# Altium schematic symbol library Altium_Box_Header.SchLib: 201 symbols (part 5 of 5)
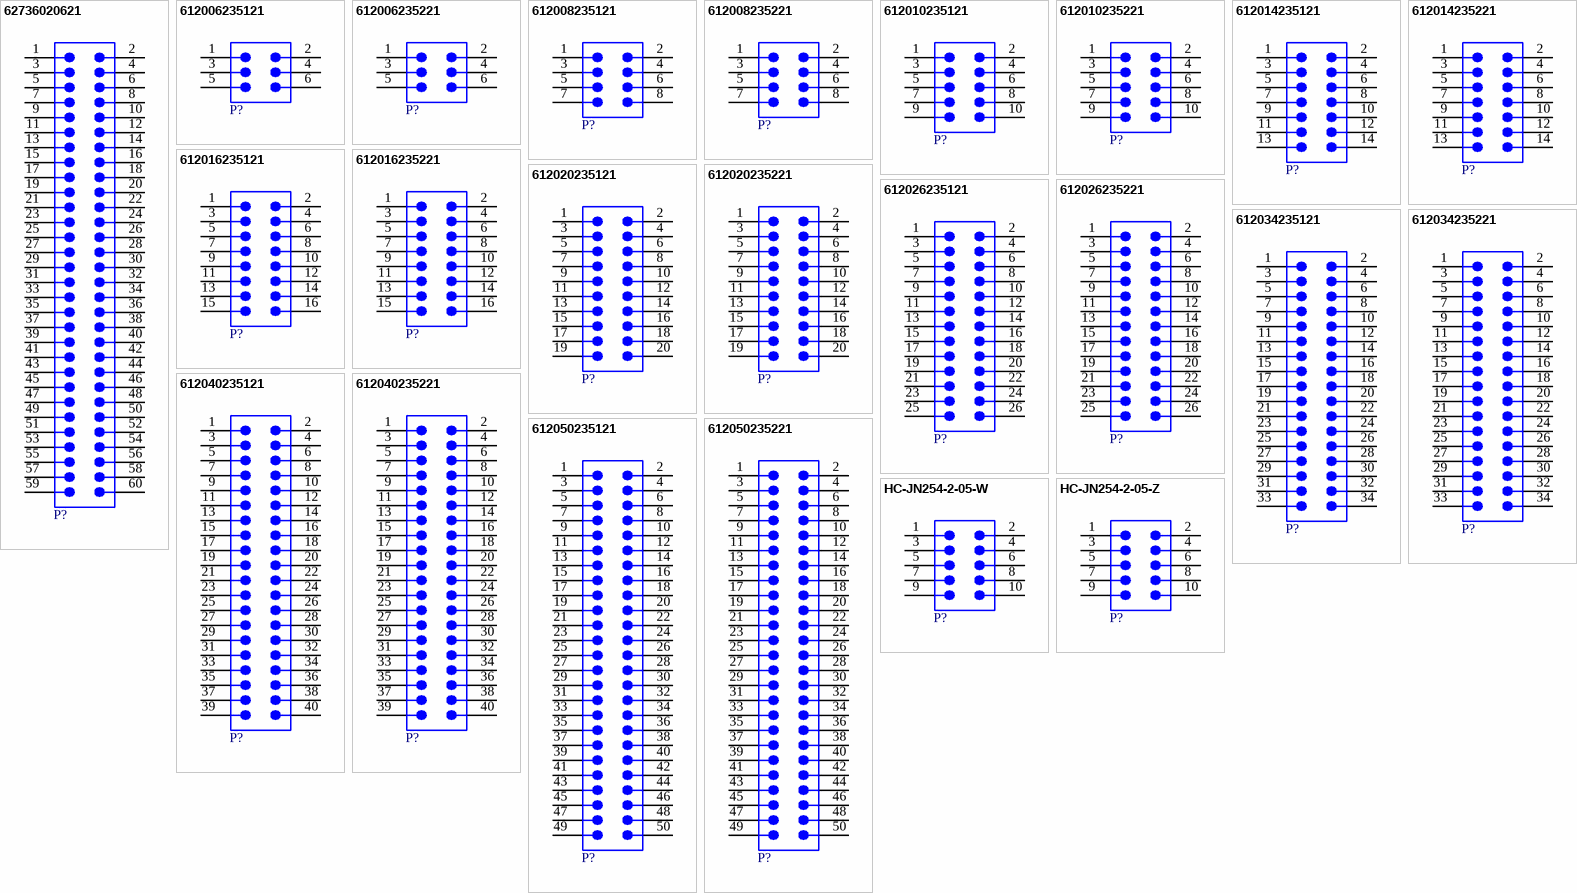
[diagram p9: symbols 62736020621 to HC-JN254-2-05-Z]

## 612014235221
designator P?  (value not drawn)
WR-BHD Male Box Header, THT Right Angle, pitch 2.54mm, 2 row, 14 pin; Manufacturer: Wurth Elektronik; Contact Resistance: 20mOhm; Insulation Resistance: 1000MOhm; Rated Current: 3A; Working Voltage: 250V; Withstanding Voltage: 500V; Manufacturer Part Number: 612014235221; Match Code: WR-BHD; ComponentLink1Description: Datasheet; ComponentLink1URL: https://www.we-online.com/redexpert/spec/612014235221?ad; Mount: Through Hole; Operating Temperature Max: 125°C; Operating Temperature Min: -40°C; Packaging: Tray; Length: 25.38mm; Width: 13.19mm; Height: 9.05mm; Gender: Male; Number of Pins: 14; Number of Rows: 2; Orientation: Right Angle; Pitch: 2.54mm; Supplier 1 URL: N/A; Supplier 2 URL: N/A; Supplier 3 URL: N/A; Supplier 1: Mouser; Supplier 1 Part Number: N/A; Supplier 2: Digi-Key; Supplier 2 Part Number: N/A; Supplier 3: thegioiic; Supplier 3 Part Number: N/A; LCSC Part #: N/A
footprint 612014235221
pins: 1, 2, 3, 4, 5, 6, 7, 8, 9, 10, 11, 12, 13, 14

## 612016235121
designator P?  (value not drawn)
WR-BHD Male Box Header, THT Straight, pitch 2.54mm, 2 row, 16 pin; Manufacturer: Wurth Elektronik; Contact Resistance: 20mOhm; Insulation Resistance: 1000MOhm; Rated Current: 3A; Working Voltage: 250V; Withstanding Voltage: 500V; Manufacturer Part Number: 612016235121; Match Code: WR-BHD; ComponentLink1Description: Datasheet; ComponentLink1URL: https://www.we-online.com/redexpert/spec/612016235121?ad; Mount: Through Hole; Operating Temperature Max: 125°C; Operating Temperature Min: -40°C; Packaging: Tray; Length: 27.92mm; Width: 9.05mm; Height: 9.05mm; Gender: Male; Number of Pins: 16; Number of Rows: 2; Orientation: Straight; Pitch: 2.54mm; Supplier 1 URL: N/A; Supplier 2 URL: N/A; Supplier 3 URL: N/A; Supplier 1: Mouser; Supplier 1 Part Number: N/A; Supplier 2: Digi-Key; Supplier 2 Part Number: N/A; Supplier 3: thegioiic; Supplier 3 Part Number: N/A; LCSC Part #: N/A
footprint 612016235121
pins: 1, 2, 3, 4, 5, 6, 7, 8, 9, 10, 11, 12, 13, 14, 15, 16

## 612016235221
designator P?  (value not drawn)
WR-BHD Male Box Header, THT Right Angle, pitch 2.54mm, 2 row, 16 pin; Manufacturer: Wurth Elektronik; Contact Resistance: 20mOhm; Insulation Resistance: 1000MOhm; Rated Current: 3A; Working Voltage: 250V; Withstanding Voltage: 500V; Manufacturer Part Number: 612016235221; Match Code: WR-BHD; ComponentLink1Description: Datasheet; ComponentLink1URL: https://www.we-online.com/redexpert/spec/612016235221?ad; Mount: Through Hole; Operating Temperature Max: 125°C; Operating Temperature Min: -40°C; Packaging: Tray; Length: 27.92mm; Width: 13.19mm; Height: 9.05mm; Gender: Male; Number of Pins: 16; Number of Rows: 2; Orientation: Right Angle; Pitch: 2.54mm; Supplier 1 URL: N/A; Supplier 2 URL: N/A; Supplier 3 URL: N/A; Supplier 1: Mouser; Supplier 1 Part Number: N/A; Supplier 2: Digi-Key; Supplier 2 Part Number: N/A; Supplier 3: thegioiic; Supplier 3 Part Number: N/A; LCSC Part #: N/A
footprint 612016235221
pins: 1, 2, 3, 4, 5, 6, 7, 8, 9, 10, 11, 12, 13, 14, 15, 16

## 612020235121
designator P?  (value not drawn)
WR-BHD Male Box Header, THT Straight, pitch 2.54mm, 2 row, 20 pin; Manufacturer: Wurth Elektronik; Contact Resistance: 20mOhm; Insulation Resistance: 1000MOhm; Rated Current: 3A; Working Voltage: 250V; Withstanding Voltage: 500V; Manufacturer Part Number: 612020235121; Match Code: WR-BHD; ComponentLink1Description: Datasheet; ComponentLink1URL: https://www.we-online.com/redexpert/spec/612020235121?ad; Mount: Through Hole; Operating Temperature Max: 125°C; Operating Temperature Min: -40°C; Packaging: Tray; Length: 33mm; Width: 9.05mm; Height: 9.05mm; Gender: Male; Number of Pins: 20; Number of Rows: 2; Orientation: Straight; Pitch: 2.54mm; Supplier 1 URL: N/A; Supplier 2 URL: N/A; Supplier 3 URL: N/A; Supplier 1: Mouser; Supplier 1 Part Number: N/A; Supplier 2: Digi-Key; Supplier 2 Part Number: N/A; Supplier 3: thegioiic; Supplier 3 Part Number: N/A; LCSC Part #: N/A
footprint 612020235121
pins: 1, 2, 3, 4, 5, 6, 7, 8, 9, 10, 11, 12, 13, 14, 15, 16, 17, 18, 19, 20

## 612020235221
designator P?  (value not drawn)
WR-BHD Male Box Header, THT Right Angle, pitch 2.54mm, 2 row, 20 pin; Manufacturer: Wurth Elektronik; Contact Resistance: 20mOhm; Insulation Resistance: 1000MOhm; Rated Current: 3A; Working Voltage: 250V; Withstanding Voltage: 500V; Manufacturer Part Number: 612020235221; Match Code: WR-BHD; ComponentLink1Description: Datasheet; ComponentLink1URL: https://www.we-online.com/redexpert/spec/612020235221?ad; Mount: Through Hole; Operating Temperature Max: 125°C; Operating Temperature Min: -40°C; Packaging: Tray; Length: 33mm; Width: 13.19mm; Height: 9.05mm; Gender: Male; Number of Pins: 20; Number of Rows: 2; Orientation: Right Angle; Pitch: 2.54mm; Supplier 1 URL: N/A; Supplier 2 URL: N/A; Supplier 3 URL: N/A; Supplier 1: Mouser; Supplier 1 Part Number: N/A; Supplier 2: Digi-Key; Supplier 2 Part Number: N/A; Supplier 3: thegioiic; Supplier 3 Part Number: N/A; LCSC Part #: N/A
footprint 612020235221
pins: 1, 2, 3, 4, 5, 6, 7, 8, 9, 10, 11, 12, 13, 14, 15, 16, 17, 18, 19, 20

## 612026235121
designator P?  (value not drawn)
WR-BHD Male Box Header, THT Straight, pitch 2.54mm, 2 row, 26 pin; Manufacturer: Wurth Elektronik; Contact Resistance: 20mOhm; Insulation Resistance: 1000MOhm; Rated Current: 3A; Working Voltage: 250V; Withstanding Voltage: 500V; Manufacturer Part Number: 612026235121; Match Code: WR-BHD; ComponentLink1Description: Datasheet; ComponentLink1URL: https://www.we-online.com/redexpert/spec/612026235121?ad; Mount: Through Hole; Operating Temperature Max: 125°C; Operating Temperature Min: -40°C; Packaging: Tray; Length: 40.62mm; Width: 9.05mm; Height: 9.05mm; Gender: Male; Number of Pins: 26; Number of Rows: 2; Orientation: Straight; Pitch: 2.54mm; Supplier 1 URL: N/A; Supplier 2 URL: N/A; Supplier 3 URL: N/A; Supplier 1: Mouser; Supplier 1 Part Number: N/A; Supplier 2: Digi-Key; Supplier 2 Part Number: N/A; Supplier 3: thegioiic; Supplier 3 Part Number: N/A; LCSC Part #: N/A
footprint 612026235121
pins: 1, 2, 3, 4, 5, 6, 7, 8, 9, 10, 11, 12, 13, 14, 15, 16, 17, 18, 19, 20, 21, 22, 23, 24, 25, 26

## 612026235221
designator P?  (value not drawn)
WR-BHD Male Box Header, THT Right Angle, pitch 2.54mm, 2 row, 26 pin; Manufacturer: Wurth Elektronik; Contact Resistance: 20mOhm; Insulation Resistance: 1000MOhm; Rated Current: 3A; Working Voltage: 250V; Withstanding Voltage: 500V; Manufacturer Part Number: 612026235221; Match Code: WR-BHD; ComponentLink1Description: Datasheet; ComponentLink1URL: https://www.we-online.com/redexpert/spec/612026235221?ad; Mount: Through Hole; Operating Temperature Max: 125°C; Operating Temperature Min: -40°C; Packaging: Tray; Length: 40.62mm; Width: 13.19mm; Height: 9.05mm; Gender: Male; Number of Pins: 26; Number of Rows: 2; Orientation: Right Angle; Pitch: 2.54mm; Supplier 1 URL: N/A; Supplier 2 URL: N/A; Supplier 3 URL: N/A; Supplier 1: Mouser; Supplier 1 Part Number: N/A; Supplier 2: Digi-Key; Supplier 2 Part Number: N/A; Supplier 3: thegioiic; Supplier 3 Part Number: N/A; LCSC Part #: N/A
footprint 612026235221
pins: 1, 2, 3, 4, 5, 6, 7, 8, 9, 10, 11, 12, 13, 14, 15, 16, 17, 18, 19, 20, 21, 22, 23, 24, 25, 26

## 612034235121
designator P?  (value not drawn)
WR-BHD Male Box Header, THT Straight, pitch 2.54mm, 2 row, 34 pin; Manufacturer: Wurth Elektronik; Contact Resistance: 20mOhm; Insulation Resistance: 1000MOhm; Rated Current: 3A; Working Voltage: 250V; Withstanding Voltage: 500V; Manufacturer Part Number: 612034235121; Match Code: WR-BHD; ComponentLink1Description: Datasheet; ComponentLink1URL: https://www.we-online.com/redexpert/spec/612034235121?ad; Mount: Through Hole; Operating Temperature Max: 125°C; Operating Temperature Min: -40°C; Packaging: Tray; Length: 50.8mm; Width: 9.05mm; Height: 9.05mm; Gender: Male; Number of Pins: 34; Number of Rows: 2; Orientation: Straight; Pitch: 2.54mm; Supplier 1 URL: N/A; Supplier 2 URL: N/A; Supplier 3 URL: N/A; Supplier 1: Mouser; Supplier 1 Part Number: N/A; Supplier 2: Digi-Key; Supplier 2 Part Number: N/A; Supplier 3: thegioiic; Supplier 3 Part Number: N/A; LCSC Part #: N/A
footprint 612034235121
pins: 1, 2, 3, 4, 5, 6, 7, 8, 9, 10, 11, 12, 13, 14, 15, 16, 17, 18, 19, 20, 21, 22, 23, 24, 25, 26, 27, 28, 29, 30, 31, 32, 33, 34

## 612034235221
designator P?  (value not drawn)
WR-BHD Male Box Header, THT Right Angle, pitch 2.54mm, 2 row, 34 pin; Manufacturer: Wurth Elektronik; Contact Resistance: 20mOhm; Insulation Resistance: 1000MOhm; Rated Current: 3A; Working Voltage: 250V; Withstanding Voltage: 500V; Manufacturer Part Number: 612034235221; Match Code: WR-BHD; ComponentLink1Description: Datasheet; ComponentLink1URL: https://www.we-online.com/redexpert/spec/612034235221?ad; Mount: Through Hole; Operating Temperature Max: 125°C; Operating Temperature Min: -40°C; Packaging: Tray; Length: 50.8mm; Width: 13.19mm; Height: 9.05mm; Gender: Male; Number of Pins: 34; Number of Rows: 2; Orientation: Right Angle; Pitch: 2.54mm; Supplier 1 URL: N/A; Supplier 2 URL: N/A; Supplier 3 URL: N/A; Supplier 1: Mouser; Supplier 1 Part Number: N/A; Supplier 2: Digi-Key; Supplier 2 Part Number: N/A; Supplier 3: thegioiic; Supplier 3 Part Number: N/A; LCSC Part #: N/A
footprint 612034235221
pins: 1, 2, 3, 4, 5, 6, 7, 8, 9, 10, 11, 12, 13, 14, 15, 16, 17, 18, 19, 20, 21, 22, 23, 24, 25, 26, 27, 28, 29, 30, 31, 32, 33, 34

## 612040235121
designator P?  (value not drawn)
WR-BHD Male Box Header, THT Straight, pitch 2.54mm, 2 row, 40 pin; Manufacturer: Wurth Elektronik; Contact Resistance: 20mOhm; Insulation Resistance: 1000MOhm; Rated Current: 3A; Working Voltage: 250V; Withstanding Voltage: 500V; Manufacturer Part Number: 612040235121; Match Code: WR-BHD; ComponentLink1Description: Datasheet; ComponentLink1URL: https://www.we-online.com/redexpert/spec/612040235121?ad; Mount: Through Hole; Operating Temperature Max: 125°C; Operating Temperature Min: -40°C; Packaging: Tray; Length: 58.4mm; Width: 9.05mm; Height: 9.05mm; Gender: Male; Number of Pins: 40; Number of Rows: 2; Orientation: Straight; Pitch: 2.54mm; Supplier 1 URL: N/A; Supplier 2 URL: N/A; Supplier 3 URL: N/A; Supplier 1: Mouser; Supplier 1 Part Number: N/A; Supplier 2: Digi-Key; Supplier 2 Part Number: N/A; Supplier 3: thegioiic; Supplier 3 Part Number: N/A; LCSC Part #: N/A
footprint 612040235121
pins: 1, 2, 3, 4, 5, 6, 7, 8, 9, 10, 11, 12, 13, 14, 15, 16, 17, 18, 19, 20, 21, 22, 23, 24, 25, 26, 27, 28, 29, 30, 31, 32, 33, 34, 35, 36, 37, 38, 39, 40

## 612040235221
designator P?  (value not drawn)
WR-BHD Male Box Header, THT Right Angle, pitch 2.54mm, 2 row, 40 pin; Manufacturer: Wurth Elektronik; Contact Resistance: 20mOhm; Insulation Resistance: 1000MOhm; Rated Current: 3A; Working Voltage: 250V; Withstanding Voltage: 500V; Manufacturer Part Number: 612040235221; Match Code: WR-BHD; ComponentLink1Description: Datasheet; ComponentLink1URL: https://www.we-online.com/redexpert/spec/612040235221?ad; Mount: Through Hole; Operating Temperature Max: 125°C; Operating Temperature Min: -40°C; Packaging: Tray; Length: 58.4mm; Width: 13.19mm; Height: 9.05mm; Gender: Male; Number of Pins: 40; Number of Rows: 2; Orientation: Right Angle; Pitch: 2.54mm; Supplier 1 URL: N/A; Supplier 2 URL: N/A; Supplier 3 URL: N/A; Supplier 1: Mouser; Supplier 1 Part Number: N/A; Supplier 2: Digi-Key; Supplier 2 Part Number: N/A; Supplier 3: thegioiic; Supplier 3 Part Number: N/A; LCSC Part #: N/A
footprint 612040235221
pins: 1, 2, 3, 4, 5, 6, 7, 8, 9, 10, 11, 12, 13, 14, 15, 16, 17, 18, 19, 20, 21, 22, 23, 24, 25, 26, 27, 28, 29, 30, 31, 32, 33, 34, 35, 36, 37, 38, 39, 40

## 612050235121
designator P?  (value not drawn)
WR-BHD Male Box Header, THT Straight, pitch 2.54mm, 2 row, 50 pin; Manufacturer: Wurth Elektronik; Contact Resistance: 20mOhm; Insulation Resistance: 1000MOhm; Rated Current: 3A; Working Voltage: 250V; Withstanding Voltage: 500V; Manufacturer Part Number: 612050235121; Match Code: WR-BHD; ComponentLink1Description: Datasheet; ComponentLink1URL: https://www.we-online.com/redexpert/spec/612050235121?ad; Mount: Through Hole; Operating Temperature Max: 125°C; Operating Temperature Min: -40°C; Packaging: Tray; Length: 71.1mm; Width: 9.05mm; Height: 9.05mm; Gender: Male; Number of Pins: 50; Number of Rows: 2; Orientation: Straight; Pitch: 2.54mm; Supplier 1 URL: N/A; Supplier 2 URL: N/A; Supplier 3 URL: N/A; Supplier 1: Mouser; Supplier 1 Part Number: N/A; Supplier 2: Digi-Key; Supplier 2 Part Number: N/A; Supplier 3: thegioiic; Supplier 3 Part Number: N/A; LCSC Part #: N/A
footprint 612050235121
pins: 1, 2, 3, 4, 5, 6, 7, 8, 9, 10, 11, 12, 13, 14, 15, 16, 17, 18, 19, 20, 21, 22, 23, 24, 25, 26, 27, 28, 29, 30, 31, 32, 33, 34, 35, 36, 37, 38, 39, 40, 41, 42, 43, 44, 45, 46, 47, 48, 49, 50

## 612050235221
designator P?  (value not drawn)
WR-BHD Male Box Header, THT Right Angle, pitch 2.54mm, 2 row, 50 pin; Manufacturer: Wurth Elektronik; Contact Resistance: 20mOhm; Insulation Resistance: 1000MOhm; Rated Current: 3A; Working Voltage: 250V; Withstanding Voltage: 500V; Manufacturer Part Number: 612050235221; Match Code: WR-BHD; ComponentLink1Description: Datasheet; ComponentLink1URL: https://www.we-online.com/redexpert/spec/612050235221?ad; Mount: Through Hole; Operating Temperature Max: 125°C; Operating Temperature Min: -40°C; Packaging: Tray; Length: 71.1mm; Width: 13.19mm; Height: 9.05mm; Gender: Male; Number of Pins: 50; Number of Rows: 2; Orientation: Right Angle; Pitch: 2.54mm; Supplier 1 URL: N/A; Supplier 2 URL: N/A; Supplier 3 URL: N/A; Supplier 1: Mouser; Supplier 1 Part Number: N/A; Supplier 2: Digi-Key; Supplier 2 Part Number: N/A; Supplier 3: thegioiic; Supplier 3 Part Number: N/A; LCSC Part #: N/A
footprint 612050235221
pins: 1, 2, 3, 4, 5, 6, 7, 8, 9, 10, 11, 12, 13, 14, 15, 16, 17, 18, 19, 20, 21, 22, 23, 24, 25, 26, 27, 28, 29, 30, 31, 32, 33, 34, 35, 36, 37, 38, 39, 40, 41, 42, 43, 44, 45, 46, 47, 48, 49, 50

## HC-JN254-2-05-W
designator P?  (value not drawn)
WR-BHD Male Box Header, THT Right Angle, pitch 2.54mm, 2 row, 10 pin; Manufacturer: HCTL; Contact Resistance: 20mOhm; Insulation Resistance: 1000MOhm; Rated Current: 3A; Working Voltage: 250V; Withstanding Voltage: 500V; Manufacturer Part Number: HC-JN254-2-05-W; Match Code: WR-BHD; ComponentLink1Description: Datasheet; ComponentLink1URL: https://www.lcsc.com/datasheet/lcsc_datasheet_2410181548_HCTL-HC-JN254-2-05-W_C5372873.pdf; Mount: Through Hole; Operating Temperature Max: 105°C; Operating Temperature Min: -40°C; Packaging: Tray; Length: 20.36mm; Width: 13.23mm; Height: 9.1mm; Gender: Male; Number of Pins: 10; Number of Rows: 2; Orientation: Right Angle; Pitch: 2.54mm; Supplier 1 URL: N/A; Supplier 2 URL: N/A; Supplier 3 URL: N/A; Supplier 1: Mouser; Supplier 1 Part Number: N/A; Supplier 2: Digi-Key; Supplier 2 Part Number: N/A; Supplier 3: thegioiic; Supplier 3 Part Number: N/A; LCSC Part #: C5372873
footprint 61201021721
pins: 1, 2, 3, 4, 5, 6, 7, 8, 9, 10

## HC-JN254-2-05-Z
designator P?  (value not drawn)
WR-BHD Male Box Header, THT Straight, pitch 2.54mm, 2 row, 10 pin; Manufacturer: HCTL; Contact Resistance: 20mOhm; Insulation Resistance: 1000MOhm; Rated Current: 3A; Working Voltage: 250V; Withstanding Voltage: 500V; Manufacturer Part Number: HC-JN254-2-05-Z; Match Code: WR-BHD; ComponentLink1Description: Datasheet; ComponentLink1URL: https://www.lcsc.com/datasheet/lcsc_datasheet_2410181546_HCTL-HC-JN254-2-05-Z_C5372865.pdf; Mount: Through Hole; Operating Temperature Max: 105°C; Operating Temperature Min: -40°C; Packaging: Tray; Length: 20.36mm; Width: 9.1mm; Height: 9.1mm; Gender: Male; Number of Pins: 10; Number of Rows: 2; Orientation: Straight; Pitch: 2.54mm; Supplier 1 URL: N/A; Supplier 2 URL: N/A; Supplier 3 URL: https://www.thegioiic.com/cong-dc3-10-chan-2-hang-2-54mm-chan-thang; Supplier 1: Mouser; Supplier 1 Part Number: N/A; Supplier 2: Digi-Key; Supplier 2 Part Number: N/A; Supplier 3: thegioiic; Supplier 3 Part Number: N/A; LCSC Part #: C5372865
footprint 61201021621
pins: 1, 2, 3, 4, 5, 6, 7, 8, 9, 10